# Altium footprint library D2PAK-STB35NF10T4.PcbLib: 1 footprints
Each footprint in its own frame and in the unit in brackets; x right, y up, seen from the top. Pads: shape width x height; smd on the part's side, far side on the other; paste and mask are expansions set on the pad; w line width, h text height; cw(c..) or ccw(c..) is an arc to the next point about the centre after c.
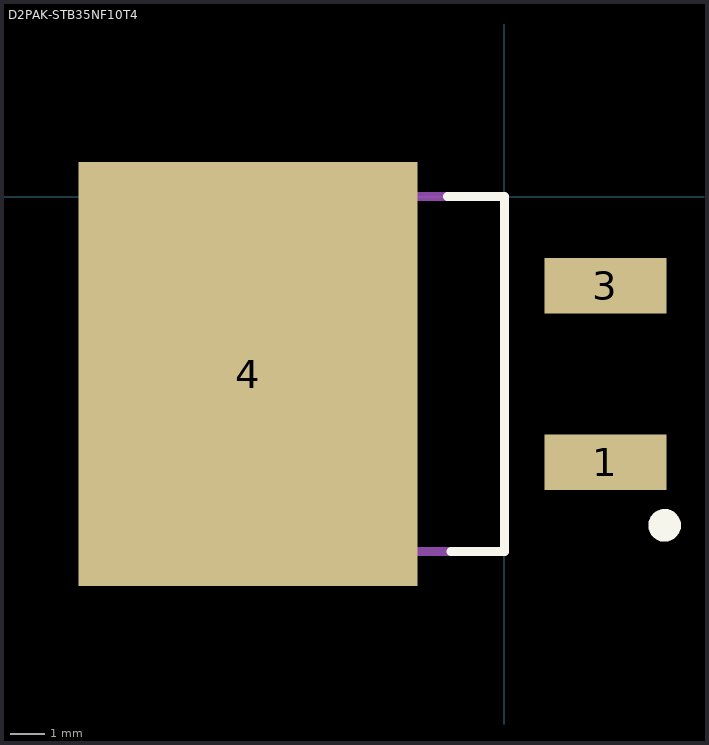
[diagram p0: the footprint, top view; thin cyan lines are the x and y axes]

## D2PAK-STB35NF10T4 [mm]
pads (3):
  rect 3.5x1.6 smd: 1(2.904,-7.64) 3(2.904,-2.56)
  rect 9.75x12.2 smd: 4(-7.371,-5.1)
Top Overlay:
  circle w0.5: c4.603,-9.449 r0.219
  lines w0.254: -1.644,0 0,0 0,-10.2 -1.535,-10.2
Mechanical 15:
  lines w0.254: -9.15,-10.2 0,-10.2 0,0 -9.15,0 -9.15,-10.2
3D body "L7805ACD2T-TR.stp": height 5.8, standoff -4.65, extent -10,-3.376 10,3.376